# EAGLE library part MC14025BDG (library ON Semiconductor_By_element14_Batch_1)
B-Suffix Series CMOS Gates
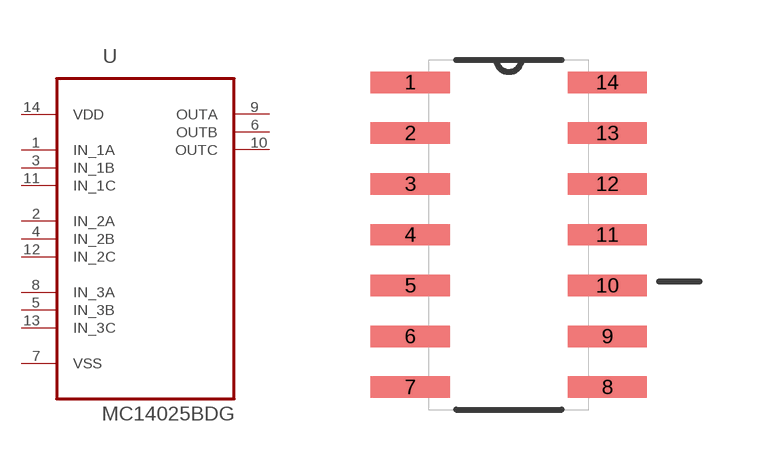
[diagram p218: symbol with the pads of SOIC127P600X175-14N; footprint SOIC127P600X175-14N]

Designator prefix U

## MC14025BDG (MPN: MC14025BDG; OC_FARNELL: 1191824; OC_NEWARK: 26K3933; P1I: o; PACKAGE: SOIC-14; SUPPLIER: ON SEMICONDUCTOR)  [SOIC127P600X175-14N]
1  IN_1A  in
2  IN_2A  in
3  IN_1B  in
4  IN_2B  in
5  IN_3B  in
6  OUTB  out
7  VSS  pas
8  IN_3A  in
9  OUTA  out
10  OUTC  out
11  IN_1C  in
12  IN_2C  in
13  IN_3C  in
14  VDD  pwr

## Footprint SOIC127P600X175-14N (pad centres in mm)
smd 1.981 x 0.533: 1 -2.464,3.81; 2 -2.464,2.54; 3 -2.464,1.27; 4 -2.464,0; 5 -2.464,-1.27; 6 -2.464,-2.54; 7 -2.464,-3.81; 8 2.464,-3.81; 9 2.464,-2.54; 10 2.464,-1.27; 11 2.464,0; 12 2.464,1.27; 13 2.464,2.54; 14 2.464,3.81